# Altium footprint library 452005691#NIBP涡轮驱动板V2.00.PcbLib: 73 footprints (part 4 of 5)
Each footprint in its own frame and in the unit in brackets; x right, y up, seen from the top. Pads: shape width x height; smd on the part's side, far side on the other; paste and mask are expansions set on the pad; w line width, h text height; cw(c..) or ccw(c..) is an arc to the next point about the centre after c.
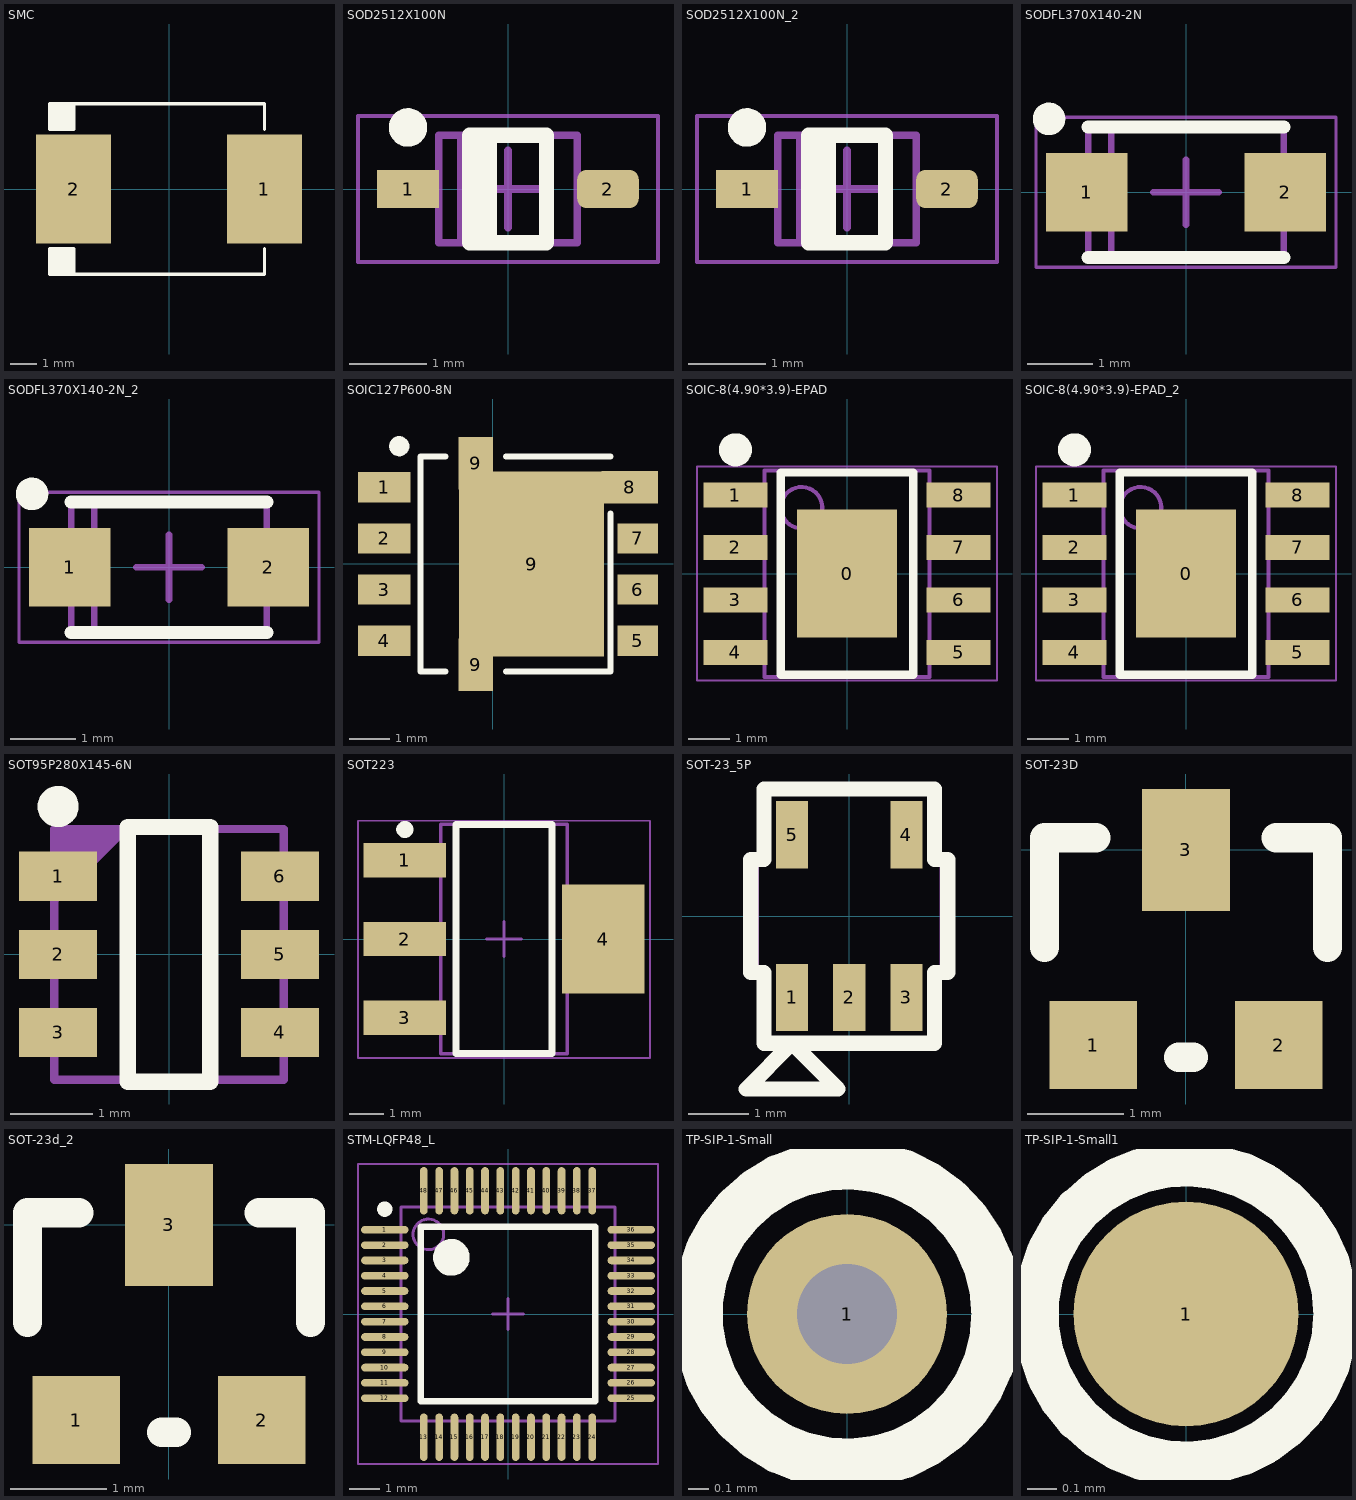
[diagram p3: the footprints below, top view; thin cyan lines are the x and y axes]

## SMC [mil] "Diode"
pads (2):
  rect 110x160 smd: 1(140,0) 2(-140,0)
Top Overlay:
  rectangle: -175,87.5 -140,125
  rectangle: -175,-125 -140,-87.5
  lines w5: 140,-87.5 140,-125 -140,-125 ; 140,87.5 140,125 -140,125 ; -140,-125 -175,-125 -175,-87.5 -140,-87.5 -140,-125 ; -140,125 -175,125 -175,87.5 -140,87.5 -140,125
3D body: height 50, standoff 0, extent -160,-62 -100,62
3D body: height 50, standoff 0, extent 100,-62 160,62
3D body: height 100, standoff 0, extent -140,-125 140,125

## SOD2512X100N [mm] "SOD323 (SC-76), 2-Leads, Body 1.25x1.70mm, IPC Medium Density"
height 1.1
pads (2):
  rect 0.8x0.5 smd: 1(-1.3,0)
  rrect50% 0.8x0.5 smd: 2(1.3,0)
Top Overlay:
  circle w0.25: c-1.3,0.8 r0.125
  lines w0.2: -0.373,-0.7 -0.373,0.7 ; -0.246,-0.7 -0.246,0.7 ; -0.5,-0.7 -0.5,0.7 0.5,0.7 0.5,-0.7 -0.5,-0.7
Mechanical 13:
  lines w0.1: -0.611,-0.7 -0.611,0.7 ; -0.9,-0.7 -0.9,0.7 0.9,0.7 0.9,-0.7 -0.9,-0.7
Mechanical 15:
  lines w0.05: -1.95,-0.95 -1.95,0.95 1.95,0.95 1.95,-0.95 -1.95,-0.95
  lines w0.1: -0.5,0 0.5,0 ; 0,-0.5 0,0.5
3D body "SOD323-N.step": height 1.1, standoff 0.01, extent -1.243,-0.7 1.243,0.7

## SOD2512X100N_2 [mm]
pads (2):
  rect 0.8x0.5 smd: 1(-1.3,0)
  rrect50% 0.8x0.5 smd: 2(1.3,0)
Top Overlay:
  circle w0.25: c-1.3,0.8 r0.125
  lines w0.2: -0.373,-0.7 -0.373,0.7 ; -0.246,-0.7 -0.246,0.7 ; -0.5,-0.7 0.5,-0.7 0.5,0.7 -0.5,0.7 -0.5,-0.7
Mechanical 13:
  lines w0.1: -0.611,-0.7 -0.611,0.7 ; -0.9,-0.7 0.9,-0.7 0.9,0.7 -0.9,0.7 -0.9,-0.7
Mechanical 15:
  lines w0.05: -1.95,-0.95 1.95,-0.95 1.95,0.95 -1.95,0.95 -1.95,-0.95
  lines w0.1: -0.5,0 0.5,0 ; 0,-0.5 0,0.5
3D body "SOD323-N.step": height 1.1, standoff 0.01, extent -1.243,-0.7 1.243,0.7

## SODFL370X140-2N [mm] "SODFL, 2-Leads, Body 1.80x3.70mm, IPC Medium Density"
height 1.4
pads (2):
  rect 1.25x1.2 smd: 1(-1.525,0) 2(1.525,0)
Top Overlay:
  circle w0.25: c-2.1,1.125 r0.125
  lines w0.2: -1.5,-1 1.5,-1 ; -1.5,1 1.5,1
Mechanical 13:
  lines w0.1: -1.143,-1 -1.143,1 ; -1.5,-1 1.5,-1 1.5,1 -1.5,1 -1.5,-1
Mechanical 15:
  lines w0.05: -2.3,-1.15 2.3,-1.15 2.3,1.15 -2.3,1.15 -2.3,-1.15
  lines w0.1: -0.5,0 0.5,0 ; 0,-0.5 0,0.5
3D body "SODFL370X140-2N.step": height 1.4, standoff 0, extent -1.85,-1 1.85,1

## SODFL370X140-2N_2 [mm]
pads (2):
  rect 1.25x1.2 smd: 1(-1.525,0) 2(1.525,0)
Top Overlay:
  circle w0.25: c-2.1,1.125 r0.125
  lines w0.2: -1.5,-1 1.5,-1 ; -1.5,1 1.5,1
Mechanical 13:
  lines w0.1: -1.143,-1 -1.143,1 ; -1.5,-1 1.5,-1 1.5,1 -1.5,1 -1.5,-1
Mechanical 15:
  lines w0.05: -2.3,-1.15 2.3,-1.15 2.3,1.15 -2.3,1.15 -2.3,-1.15
  lines w0.1: -0.5,0 0.5,0 ; 0,-0.5 0,0.5
3D body "SODFL370X140-2N.step": height 1.4, standoff 0, extent -1.85,-1 1.85,1

## SOIC127P600-8N [mm]
height 2.65
pads (11):
  rect 1.3x0.75 smd: 1(-2.7,1.905) 2(-2.7,0.635) 3(-2.7,-0.635) 4(-2.7,-1.905)
  rect 1x0.75 smd: 5(3.6,-1.905) 6(3.6,-0.635) 7(3.6,0.635)
  rect 1.4x0.8 smd: 8(3.4,1.905)
  rect 0.85x1.3 smd: 9(-0.425,-2.5) 9(-0.425,2.5)
  rect 3.6x4.6 smd: 9(0.96,0)
Top Overlay:
  circle w0.25: c-2.325,2.925 r0.125
  lines w0.15: -1.798,-2.675 -1.798,2.675 ; -1.784,-2.675 -1.178,-2.675 ; -1.784,2.675 -1.178,2.675 ; 0.322,-2.675 2.915,-2.675 2.915,1.25 ; 0.322,2.675 2.915,2.675

## SOIC-8(4.90*3.9)-EPAD [mm] "SOIC, 8-Leads, Body 4.90x3.90mm, Pitch 1.27mm, IPC Medium Density"
height 1.75
pads (9):
  rect 2.41x3.1 smd: 0(0,0)
  rect 1.55x0.6 smd: 1(-2.7,1.905) 2(-2.7,0.635) 3(-2.7,-0.635) 4(-2.7,-1.905) 5(2.7,-1.905) 6(2.7,-0.635) 7(2.7,0.635) 8(2.7,1.905)
Top Overlay:
  circle w0.5: c-2.7,3 r0.15
  lines w0.203: -1.6,-2.45 -1.6,2.45 1.6,2.45 1.6,-2.45 -1.6,-2.45
Mechanical 13:
  circle w0.1: c-1.1,1.6 r0.5
  lines w0.1: -2,-2.5 -2,2.5 2,2.5 2,-2.5 -2,-2.5
Mechanical 15:
  lines w0.05: -0.5,0 0.5,0 ; 0,-0.5 0,0.5 ; -3.632,-2.591 3.632,-2.591 3.632,2.591 -3.632,2.591 -3.632,-2.591
  lines w0.1: -0.5,0 0.5,0 ; 0,-0.5 0,0.5
Mechanical 16:
  circle w0.05: c0,0 r0.35
3D body: height 1.75, standoff 0.1, extent -2,-2.5 2,2.5

## SOIC-8(4.90*3.9)-EPAD_2 [mm]
pads (9):
  rect 2.41x3.1 smd: 0(0,0)
  rect 1.55x0.6 smd: 1(-2.7,1.905) 2(-2.7,0.635) 3(-2.7,-0.635) 4(-2.7,-1.905) 5(2.7,-1.905) 6(2.7,-0.635) 7(2.7,0.635) 8(2.7,1.905)
Top Overlay:
  circle w0.5: c-2.7,3 r0.15
  lines w0.203: -1.6,-2.45 1.6,-2.45 1.6,2.45 -1.6,2.45 -1.6,-2.45
Mechanical 13:
  circle w0.1: c-1.1,1.6 r0.5
  lines w0.1: -2,-2.5 2,-2.5 2,2.5 -2,2.5 -2,-2.5
Mechanical 15:
  lines w0.05: -0.5,0 0.5,0 ; 0,-0.5 0,0.5 ; -3.632,-2.591 -3.632,2.591 3.632,2.591 3.632,-2.591 -3.632,-2.591
  lines w0.1: -0.5,0 0.5,0 ; 0,-0.5 0,0.5
Mechanical 16:
  circle w0.05: c0,0 r0.35
3D body: height 1.75, standoff 0.1, extent -2,-2.5 2,2.5

## SOT95P280X145-6N [mm] "SOT23, 6-Leads, Body 2,95x2,80mm, Pitch 0,95mm, IPC Medium Density"
height 1.45
pads (6):
  rect 0.95x0.6 smd: 1(-1.35,0.95) 2(-1.35,0) 3(-1.35,-0.95) 4(1.35,-0.95) 5(1.35,0) 6(1.35,0.95)
Top Overlay:
  circle w0.25: c-1.35,1.8 r0.125
  lines w0.2: -0.5,-1.55 -0.5,1.55 0.5,1.55 0.5,-1.55 -0.5,-1.55
Mechanical 16:
  region: -1.397,1.525 -1.397,0.593 -0.465,1.525
  lines w0.1: -1.397,-1.525 1.397,-1.525 1.397,1.525 -1.397,1.525 -1.397,-1.525
3D body "SOT95P280X145-6N.step": height 1.45, standoff 0, extent -1.4,-1.55 1.4,1.55

## SOT223 [mm] "SOT223, 4-Leads, Body 6.50x7.00mm (avg), Pitch 2.30mm, IPC Medium Density"
height 1.8
pads (4):
  rect 2.4x1 smd: 1(-2.9,2.3) 2(-2.9,0) 3(-2.9,-2.3)
  rect 2.4x3.2 smd: 4(2.9,0)
Top Overlay:
  circle w0.25: c-2.9,3.2 r0.125
  lines w0.203: -1.4,-3.35 -1.4,3.35 1.4,3.35 1.4,-3.35 -1.4,-3.35
Mechanical 13:
  lines w0.1: -1.85,-3.35 -1.85,3.35 1.85,3.35 1.85,-3.35 -1.85,-3.35
Mechanical 15:
  lines w0.05: -4.267,-3.48 -4.267,3.454 4.267,3.454 4.267,-3.48 -4.267,-3.48
  lines w0.1: -0.5,0 0.5,0 ; 0,-0.5 0,0.5
3D body: height 1.8, standoff 0.02, extent -1.85,-3.35 1.85,3.35

## SOT-23_5P [mil] "SOT-23_5P"
height 104.33
pads (5):
  rrect0% 21x44 smd: 1(-37.4,-53.23) 2(0,-53.23) 3(37.4,-53.23) 4(37.4,53.23) 5(-37.4,53.23)
Top Overlay:
  lines w10: -67.4,-113.23 -7.4,-113.23 -37.4,-83.23 -67.4,-113.23 ; -64.45,-36.99 -55.9,-36.99 -55.9,-83.23 55.9,-83.23 55.9,-36.99 64.45,-36.99 64.45,36.99 55.9,36.99 55.9,83.23 -55.9,83.23 -55.9,36.99 -64.45,36.99 -64.45,-36.99
Mechanical 14:
  lines w1: -59.45,-31.99 -59.45,31.99 ; 29,-55.23 45.8,-55.23 45.8,-41.45 29,-41.45 ; 59.45,-31.99 59.45,31.99 ; -45.8,41.45 -29,41.45 -29,55.23 -45.8,55.23 -45.8,41.45 ; 29,41.45 45.8,41.45 45.8,55.23 29,55.23 29,41.45

## SOT-23D [mil]
height 162.99
pads (3):
  rect 36x36 smd: 1(-38,-80) 2(38,-80)
  rect 36x50 smd: 3(0,0)
Top Overlay:
  lines w12: -58,-40 -58,5 -37,5 ; -3,-85 3,-85 ; 37,5 58,5 58,-40

## SOT-23d_2 [mil]
pads (3):
  rect 36x36 smd: 1(-38,-80) 2(38,-80)
  rect 36x50 smd: 3(0,0)
Top Overlay:
  lines w12: -58,-40 -58,5 -37,5 ; -3,-85 3,-85 ; 37,5 58,5 58,-40

## STM-LQFP48_L [mm] "QFP, 48-Leads, Body 7x7mm, Pitch 0.5mm, IPC High Density"
height 1.6
pads (48):
  oval 1.55x0.25 smd: 1(-4.025,2.75) 2(-4.025,2.25) 3(-4.025,1.75) 4(-4.025,1.25) 5(-4.025,0.75) 6(-4.025,0.25) 7(-4.025,-0.25) 8(-4.025,-0.75) 9(-4.025,-1.25) 10(-4.025,-1.75) 11(-4.025,-2.25) 12(-4.025,-2.75) 25(4.025,-2.75) 26(4.025,-2.25) 27(4.025,-1.75) 28(4.025,-1.25) 29(4.025,-0.75) 30(4.025,-0.25) 31(4.025,0.25) 32(4.025,0.75) 33(4.025,1.25) 34(4.025,1.75) 35(4.025,2.25) 36(4.025,2.75)
  oval 0.25x1.55 smd: 13(-2.75,-4.025) 14(-2.25,-4.025) 15(-1.75,-4.025) 16(-1.25,-4.025) 17(-0.75,-4.025) 18(-0.25,-4.025) 19(0.25,-4.025) 20(0.75,-4.025) 21(1.25,-4.025) 22(1.75,-4.025) 23(2.25,-4.025) 24(2.75,-4.025) 37(2.75,4.025) 38(2.25,4.025) 39(1.75,4.025) 40(1.25,4.025) 41(0.75,4.025) 42(0.25,4.025) 43(-0.25,4.025) 44(-0.75,4.025) 45(-1.25,4.025) 46(-1.75,4.025) 47(-2.25,4.025) 48(-2.75,4.025)
Top Overlay:
  circle w0.6: c-1.85,1.85 r0.3
  circle w0.25: c-4.025,3.425 r0.125
  lines w0.2: -2.85,-2.85 2.85,-2.85 2.85,2.85 -2.85,2.85 -2.85,-2.85
Mechanical 13:
  circle w0.1: c-2.6,2.6 r0.5
  lines w0.1: -3.5,-3.5 3.5,-3.5 3.5,3.5 -3.5,3.5 -3.5,-3.5
Mechanical 15:
  lines w0.05: -4.9,-4.9 4.9,-4.9 4.9,4.9 -4.9,4.9 -4.9,-4.9
  lines w0.1: -0.5,0 0.5,0 ; 0,-0.5 0,0.5
3D body: height 1.6, standoff 0.05, extent -3.5,-3.5 3.5,3.5

## TP-SIP-1-Small [mm]
height 2
pads (1):
  round 1 hole 0.5: 1(0,0)
Top Overlay:
  circle w0.254: c0,0 r0.749

## TP-SIP-1-Small1 [mil]
height 78.74
pads (1):
  round 30 smd: 1(0,0)
Top Overlay:
  circle w6: c0,0 r20